# Altium schematic symbol library RES_10W.SchLib: 1 symbol
Pins are listed as number, name and electrical type; pins without a type are passive.

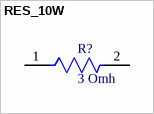
[diagram p0: symbol RES_10W]

## RES_10W
designator R?, comment 3 Omh
footprint 10W 3 Ohm
pins: 1, 2